# Altium footprint library vga.PcbLib: 95 footprints (part 4 of 7)
Each footprint in its own frame and in the unit in brackets; x right, y up, seen from the top. Pads: shape width x height; smd on the part's side, far side on the other; paste and mask are expansions set on the pad; w line width, h text height; cw(c..) or ccw(c..) is an arc to the next point about the centre after c.
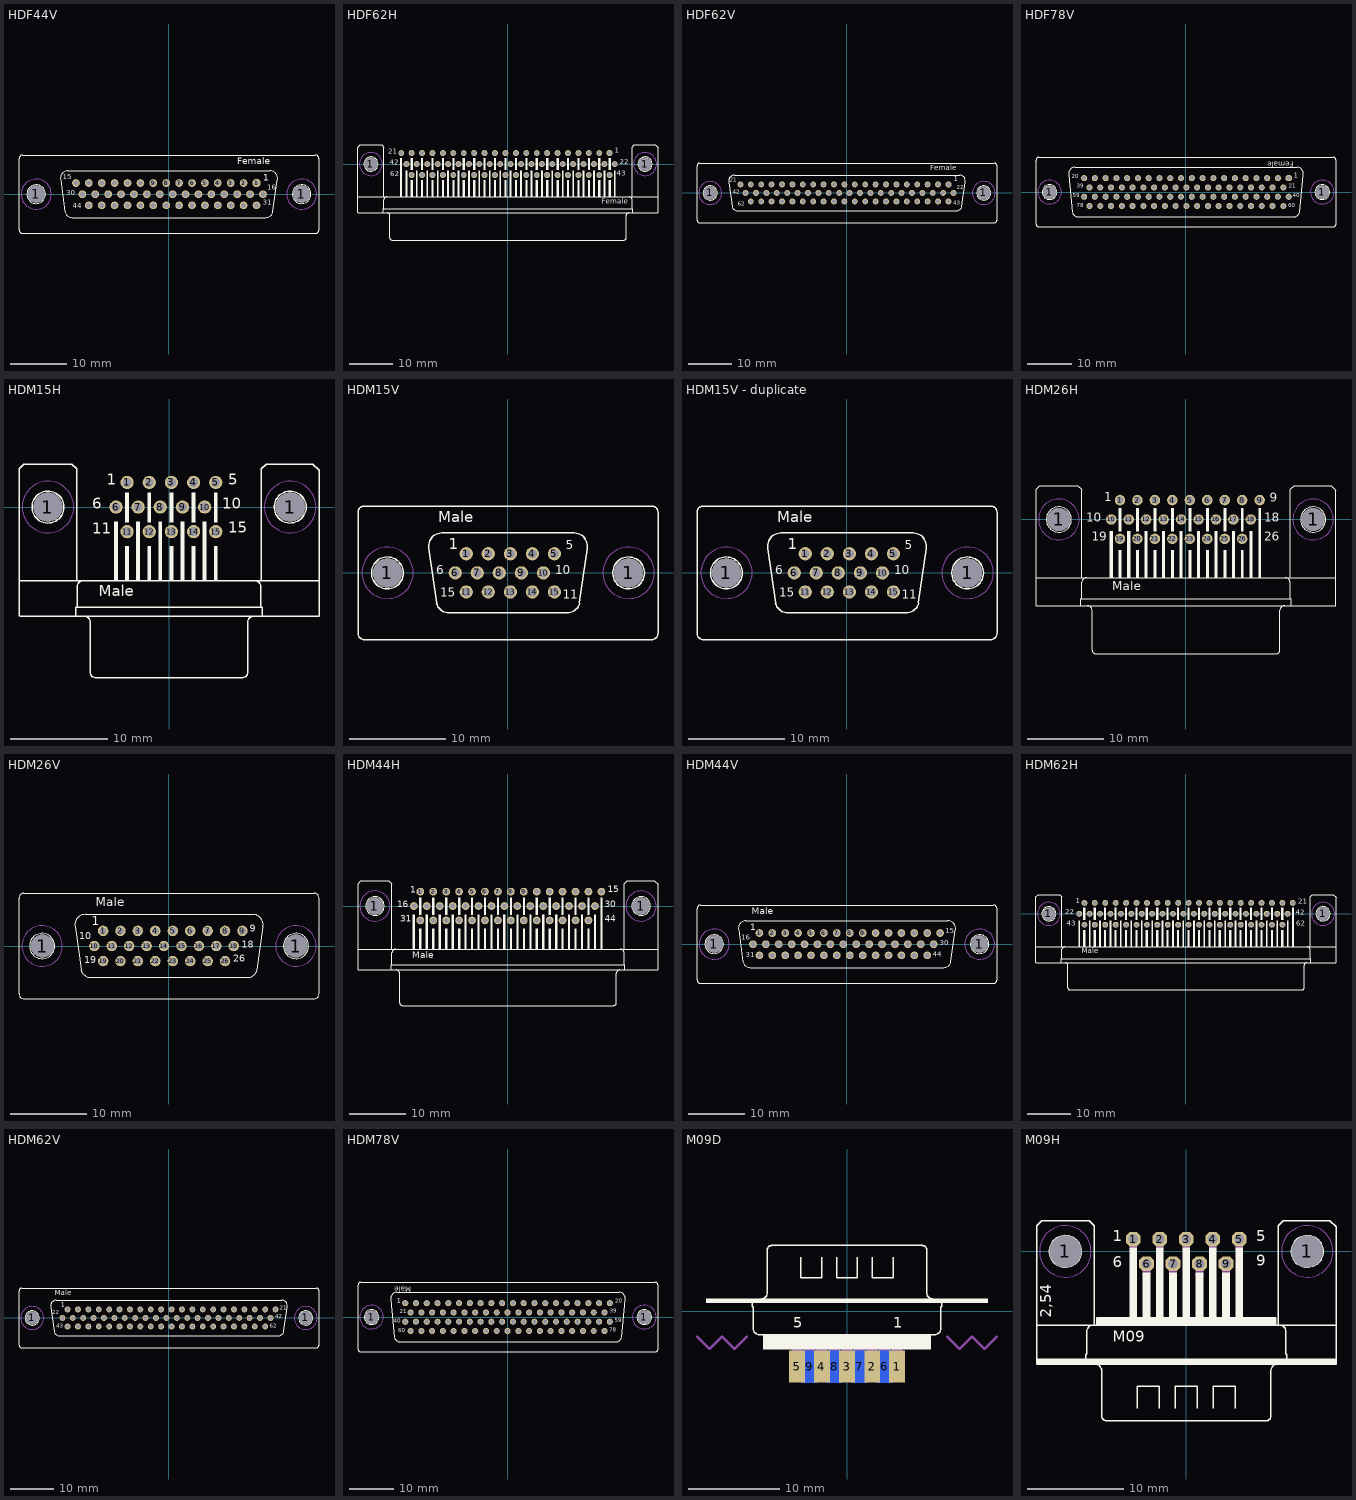
[diagram p3: the footprints below, top view; thin cyan lines are the x and y axes]

## HDF44V [mil]
pads (46):
  round 119 hole 119: 1(-925.98,0) 1(926,0)
  oct 54x54 hole 36: 1(611,78)
  round 54 hole 36: 2(521,78) 3(431,78) 4(341,78) 5(251,78) 6(161,78) 7(71,78) 8(-19.13,78) 9(-109.13,78) 10(-199.13,78) 11(-289.13,78) 12(-379.13,78) 13(-469.13,78) 14(-559.13,78) 15(-649.13,78) 16(656,0) 17(566,0) 18(476,0) 19(386,0) 20(296,0) 21(206,0) 22(116,0) 23(26,0) 24(-64.13,0) 25(-154.13,0) 26(-244.13,0) 27(-334.13,0) 28(-424.13,0) 29(-514.13,0) 30(-604.13,0) 31(611,-77.95) 32(521,-77.95) 33(431,-77.95) 34(341,-77.95) 35(251,-77.95) 36(161,-77.95) 37(71,-77.95) 38(-19.13,-77.95) 39(-109.13,-77.95) 40(-199.13,-77.95) 41(-289.13,-77.95) 42(-379.13,-77.95) 43(-469.13,-77.95) 44(-559.13,-77.95)
Top Overlay:
  circle w6: c926,0 r65
  circle w6: c-925.98,0 r65
  lines w6: -1021.3,-272.56 cw(c-1021.3,-247.56) -1046.3,-247.56 -1046.3,248 cw(c-1021.3,248) -1021.3,273 1021,273 ; -1020.98,-272.56 1022,-272.56 ccw(c1022,-247.56) 1047,-247.56 1047,248 ccw(c1022,248) 1022,273 ; -725.86,-123.21 ccw(c-674.57,-109.87) -674.57,-162.87 675,-162.87 ccw(c674.85,-110.06) 726,-123.21 ; -725.55,-123.86 -756.57,100 cw(c-704.73,110.2) -704.57,163 705,163 cw(c705.22,110.06) 757,99 726,-122.87
  text "1" at 657,75 h77.5
  text "44" at -672.95,-112.8 h62
  text "16" at 685,18 h62
  text "15" at -739.68,91 h62
  text "30" at -718.31,-22.24 h62
  text "31" at 654,-89.17 h62
  text "Female" at 475,190 h77.5
Mechanical 2:
  text ">NAME" at -450,300 h108.5
Mechanical 4:
  text ">VALUE" at -400,-250 h108.5
Mechanical 9:
  circle w0: c926,0 r105
  circle w0: c-925.98,0 r105
Mechanical 10:
  circle w0: c926,0 r105
  circle w0: c-925.98,0 r105
Mechanical 16:
  text "HDF44 CONEC" at -758.74,211 h77.5

## HDF62H [mil]
pads (64):
  round 119 hole 119: 1(-1250,0) 1(1250,0)
  oct 54x54 hole 36: 1(927,100)
  round 54 hole 36: 2(832,100) 3(737,100) 4(642,100) 5(547,100) 6(452,100) 7(357,100) 8(262,100) 9(167,100) 10(72,100) 11(-23.74,100) 12(-118.74,100) 13(-213.74,100) 14(-308.74,100) 15(-403.74,100) 16(-498.74,100) 17(-593.74,100) 18(-688.74,100) 19(-783.74,100) 20(-878.74,100) 21(-973.74,100) 22(974,0) 23(879,0) 24(784,0) 25(689,0) 26(594,0) 27(499,0) 28(404,0) 29(309,0) 30(214,0) 31(119,0) 32(24,0) 33(-71.22,0) 34(-166.22,0) 35(-261.22,0) 36(-356.22,0) 37(-451.22,0) 38(-546.22,0) 39(-641.22,0) 40(-736.22,0) 41(-831.22,0) 42(-926.22,0) 43(927,-100) 44(832,-100) 45(737,-100) 46(642,-100) 47(547,-100) 48(452,-100) 49(357,-100) 50(262,-100) 51(167,-100) 52(72,-100) 53(-23.74,-100) 54(-118.74,-100) 55(-213.74,-100) 56(-308.74,-100) 57(-403.74,-100) 58(-498.74,-100) 59(-593.74,-100) 60(-688.74,-100) 61(-783.74,-100) 62(-878.74,-100)
Top Overlay:
  circle w6: c1250,0 r65
  circle w6: c-1250,0 r65
  rectangle: 966,-299.21 982,-59.06
  rectangle: 871,-299.21 887,-59.06
  rectangle: 776,-299.21 792,-59.06
  rectangle: 681,-299.21 697,-59.06
  rectangle: 586,-299.21 602,-59.06
  rectangle: 491,-299.21 507,-59.06
  rectangle: 396,-299.21 412,-59.06
  rectangle: 301,-299.21 317,-59.06
  rectangle: 206,-299.21 222,-59.06
  rectangle: 111,-299.21 127,-59.06
  rectangle: 16,-299.21 32,-59.06
  rectangle: -79.09,-299.21 -63.35,-59.06
  rectangle: -174.09,-299.21 -158.35,-59.06
  rectangle: -269.09,-299.21 -253.35,-59.06
  rectangle: -364.09,-299.21 -348.35,-59.06
  rectangle: -459.09,-299.21 -443.35,-59.06
  rectangle: -554.09,-299.21 -538.35,-59.06
  rectangle: -649.09,-299.21 -633.35,-59.06
  rectangle: -744.09,-299.21 -728.35,-59.06
  rectangle: -839.09,-299.21 -823.35,-59.06
  rectangle: -934.09,-299.21 -918.35,-59.06
  rectangle: 918,-299.21 938,-145.67
  rectangle: 918,-55.12 938,56
  rectangle: 823,-299.21 843,-145.67
  rectangle: 728,-299.21 748,-145.67
  rectangle: 823,-55.12 843,56
  rectangle: 728,-55.12 748,56
  rectangle: 633,-55.12 653,56
  rectangle: 633,-299.21 653,-145.67
  rectangle: 538,-299.21 558,-145.67
  rectangle: 538,-55.12 558,56
  rectangle: 443,-299.21 463,-145.67
  rectangle: 348,-299.21 368,-145.67
  rectangle: 443,-55.12 463,56
  rectangle: 348,-55.12 368,56
  rectangle: 253,-55.12 273,56
  rectangle: 253,-299.21 273,-145.67
  rectangle: 158,-299.21 178,-145.67
  rectangle: 158,-55.12 178,56
  rectangle: 63,-299.21 83,-145.67
  rectangle: -32.68,-299.21 -12.99,-145.67
  rectangle: 63,-55.12 83,56
  rectangle: -32.68,-55.12 -12.99,56
  rectangle: -127.68,-55.12 -107.99,56
  rectangle: -127.68,-299.21 -107.99,-145.67
  rectangle: -222.68,-299.21 -202.99,-145.67
  rectangle: -222.68,-55.12 -202.99,56
  rectangle: -317.68,-299.21 -297.99,-145.67
  rectangle: -412.68,-299.21 -392.99,-145.67
  rectangle: -317.68,-55.12 -297.99,56
  rectangle: -412.68,-55.12 -392.99,56
  rectangle: -507.68,-55.12 -487.99,56
  rectangle: -507.68,-299.21 -487.99,-145.67
  rectangle: -602.68,-299.21 -582.99,-145.67
  rectangle: -602.68,-55.12 -582.99,56
  rectangle: -697.68,-299.21 -677.99,-145.67
  rectangle: -792.68,-299.21 -772.99,-145.67
  rectangle: -697.68,-55.12 -677.99,56
  rectangle: -792.68,-55.12 -772.99,56
  rectangle: -887.68,-55.12 -867.99,56
  rectangle: -887.68,-299.21 -867.99,-145.67
  rectangle: -984.25,-299.21 -964.57,56
  lines w6: -1367.87,-443.94 -1367.87,-300 ; -1366.14,-444.88 1367,-444.88 ; -1136.38,-443.94 -1136.38,-408.19 -1131.38,-408.19 ; -1132.87,-300 -1132.87,155 -1152.87,175 -1347.87,175 -1367.87,155 -1367.87,-300 ; -1106.38,-300 ccw(c-1106.38,-325) -1131.38,-325 -1131.38,-408.19 ; -1102.87,-444.25 cw(c-1102.87,-469.25) -1077.87,-469.25 -1077.87,-673.19 ccw(c-1057.87,-673.19) -1057.87,-693.19 1058,-693.19 ccw(c1058,-673.19) 1078,-673.19 1078,-469.25 cw(c1103,-469.25) 1103,-444.25 ; 1107,-300 cw(c1107,-325) 1132,-325 1132,-408.19 ; 1133,-300 1133,155 1153,175 1343,175 1368,150 1368,-443.94 ; 1137,-443.94 1137,-408.19 1132,-408.19 ; 1365,-300 -1367.87,-300 ; -1131.38,-408.19 1132,-408.19
  text "1" at 975,83 h77.5
  text "21" at -1090.16,75 h77.5
  text "42" at -1076.1,-26.18 h77.5
  text "62" at -1074.61,-128.54 h77.5
  text "22" at 1018,-18.31 h77.5
  text "43" at 994,-124.61 h77.5
  text "Female" at 855,-380 h77.5
Mechanical 2:
  text ">NAME" at -400,150 h108.5
Mechanical 4:
  text ">VALUE" at 0,150 h108.5
Mechanical 9:
  circle w0: c1250,0 r105
  circle w0: c-1250,0 r105
Mechanical 10:
  circle w0: c1250,0 r105
  circle w0: c-1250,0 r105
Mechanical 16:
  text "HDF62 CONEC" at -998.74,-389.41 h77.5

## HDF62V [mil]
pads (64):
  round 119 hole 119: 1(-1250,0) 1(1250,0)
  oct 54x54 hole 36: 1(927,78)
  round 54 hole 36: 2(832,78) 3(737,78) 4(642,78) 5(547,78) 6(452,78) 7(357,78) 8(262,78) 9(167,78) 10(72,78) 11(-23.54,78) 12(-118.54,78) 13(-213.54,78) 14(-308.54,78) 15(-403.54,78) 16(-498.54,78) 17(-593.54,78) 18(-688.54,78) 19(-783.54,78) 20(-878.54,78) 21(-973.54,78) 22(974,0) 23(879,0) 24(784,0) 25(689,0) 26(594,0) 27(499,0) 28(404,0) 29(309,0) 30(214,0) 31(119,0) 32(24,0) 33(-71.06,0) 34(-166.06,0) 35(-261.06,0) 36(-356.06,0) 37(-451.06,0) 38(-546.06,0) 39(-641.06,0) 40(-736.06,0) 41(-831.06,0) 42(-926.06,0) 43(927,-77.95) 44(832,-77.95) 45(737,-77.95) 46(642,-77.95) 47(547,-77.95) 48(452,-77.95) 49(357,-77.95) 50(262,-77.95) 51(167,-77.95) 52(72,-77.95) 53(-23.54,-77.95) 54(-118.54,-77.95) 55(-213.54,-77.95) 56(-308.54,-77.95) 57(-403.54,-77.95) 58(-498.54,-77.95) 59(-593.54,-77.95) 60(-688.54,-77.95) 61(-783.54,-77.95) 62(-878.54,-77.95)
Top Overlay:
  circle w6: c1250,0 r65
  circle w6: c-1250,0 r65
  lines w6: -1345.32,-272.56 cw(c-1345.32,-247.56) -1370.32,-247.56 -1370.32,248 cw(c-1345.32,248) -1345.32,273 1345,273 ; -1345,-272.56 1346,-272.56 ccw(c1346,-247.56) 1371,-247.56 1371,248 ccw(c1346,248) 1346,273 ; -1080.59,100 -1049.57,-123.86 ; -1080.56,100 cw(c-1028.74,110.2) -1028.58,163 1029,163 cw(c1029.22,110.06) 1081,99 1050,-122.87 ; -1049.88,-123.21 ccw(c-998.58,-109.87) -998.58,-162.87 999,-162.87 ccw(c998.85,-110.06) 1050,-123.21
  text "1" at 975,91 h77.5
  text "62" at -996.97,-128.54 h62
  text "21" at -1071.57,87 h62
  text "42" at -1042.32,-22.24 h62
  text "22" at 1003,18 h62
  text "43" at 973,-120.67 h62
  text "Female" at 760,190 h77.5
Mechanical 2:
  text ">NAME" at -450,300 h108.5
Mechanical 4:
  text ">VALUE" at -400,-250 h108.5
Mechanical 9:
  circle w0: c1250,0 r105
  circle w0: c-1250,0 r105
Mechanical 10:
  circle w0: c1250,0 r105
  circle w0: c-1250,0 r105
Mechanical 16:
  text "HDF62 CONEC" at -948.74,211 h77.5

## HDF78V [mil]
pads (80):
  round 119 hole 119: 1(-1202.76,0) 1(1203,0)
  oct 54x54 hole 36: 1(907,123)
  round 54 hole 36: 2(812,123) 3(717,123) 4(622,123) 5(527,123) 6(432,123) 7(337,123) 8(242,123) 9(147,123) 10(52,123) 11(-43.54,123) 12(-138.54,123) 13(-233.54,123) 14(-328.54,123) 15(-423.54,123) 16(-518.54,123) 17(-613.54,123) 18(-708.54,123) 19(-803.54,123) 20(-898.54,123) 21(859,41) 22(764,41) 23(669,41) 24(574,41) 25(479,41) 26(384,41) 27(289,41) 28(194,41) 29(99,41) 30(4,41) 31(-91.06,41) 32(-186.06,41) 33(-281.06,41) 34(-376.06,41) 35(-471.06,41) 36(-566.06,41) 37(-661.06,41) 38(-756.06,41) 39(-851.06,41) 40(907,-40.94) 41(812,-40.94) 42(717,-40.94) 43(622,-40.94) 44(527,-40.94) 45(432,-40.94) 46(337,-40.94) 47(242,-40.94) 48(147,-40.94) 49(52,-40.94) 50(-43.54,-40.94) 51(-138.54,-40.94) 52(-233.54,-40.94) 53(-328.54,-40.94) 54(-423.54,-40.94) 55(-518.54,-40.94) 56(-613.54,-40.94) 57(-708.54,-40.94) 58(-803.54,-40.94) 59(-898.54,-40.94) 60(859,-122.83) 61(764,-122.83) 62(669,-122.83) 63(574,-122.83) 64(479,-122.83) 65(384,-122.83) 66(289,-122.83) 67(194,-122.83) 68(99,-122.83) 69(4,-122.83) 70(-91.06,-122.83) 71(-186.06,-122.83) 72(-281.06,-122.83) 73(-376.06,-122.83) 74(-471.06,-122.83) 75(-566.06,-122.83) 76(-661.06,-122.83) 77(-756.06,-122.83) 78(-851.06,-122.83)
Top Overlay:
  circle w6: c1203,0 r65
  circle w6: c-1202.76,0 r65
  lines w6: -1298.07,-307.99 cw(c-1298.07,-282.99) -1323.07,-282.99 -1323.07,283 cw(c-1298.07,283) -1298.07,308 1298,308 ; -1297.76,-307.99 1299,-307.99 ccw(c1299,-282.99) 1324,-282.99 1324,283 ccw(c1299,283) 1299,308 ; -1033.35,155 -1002.32,-178.98 ; -1033.31,155 cw(c-981.5,165.2) -981.34,218 982,218 cw(c982.22,165.06) 1034,154 1003,-177.99 ; -1002.63,-178.33 ccw(c-951.34,-164.99) -951.34,-217.99 952,-217.99 ccw(c951.85,-165.18) 1003,-178.33
  text "1" at 951,107 h77.5
  text "21" at 908,25 h62
  text "40" at 944,-57.68 h62
  text "60" at 901,-148.23 h62
  text "20" at -1008.58,111 h62
  text "39" at -963.58,25 h62
  text "59" at -1000.91,-57.68 h62
  text "78" at -961.54,-148.23 h62
  text "Female" at 950,285 h77.5
Mechanical 2:
  text ">NAME" at -900,350 h108.5
Mechanical 4:
  text ">VALUE" at -500,350 h108.5
Mechanical 9:
  circle w0: c1203,0 r105
  circle w0: c-1202.76,0 r105
Mechanical 10:
  circle w0: c1203,0 r105
  circle w0: c-1202.76,0 r105
Mechanical 16:
  text "HDF78 CONEC" at -944.8,243 h77.5

## HDM15H [mil]
pads (17):
  round 119 hole 119: 1(-492.13,0) 1(493,0)
  round 54 hole 36: 1(-170.43,100) 2(-80.43,100) 3(10,100) 4(100,100) 5(190,100) 6(-215.43,0) 7(-125.43,0) 8(-35.43,0) 9(55,0) 10(145,0) 11(-170.43,-100) 12(-80.43,-100) 13(10,-100) 14(100,-100) 15(190,-100)
Top Overlay:
  circle w6: c493,0 r65
  circle w6: c-492.13,0 r65
  rectangle: -43.31,-299.21 -27.56,-59.06
  rectangle: 47,-299.21 63,-59.06
  rectangle: 137,-299.21 153,-59.06
  rectangle: -133.31,-299.21 -117.56,-59.06
  rectangle: -223.31,-299.21 -207.56,-59.06
  rectangle: 2,-299.21 18,-157.48
  rectangle: 92,-299.21 108,-157.48
  rectangle: 182,-299.21 198,-157.48
  rectangle: -88.31,-299.21 -72.56,-157.48
  rectangle: -178.31,-299.21 -162.56,-157.48
  rectangle: 182,-62.99 198,60
  rectangle: 92,-62.99 108,60
  rectangle: 2,-62.99 18,60
  rectangle: -88.31,-62.99 -72.56,60
  rectangle: -178.31,-62.99 -162.56,60
  lines w6: -610,-443.94 -610,-300 ; -605.51,-444.65 610,-444.65 ; -378.5,-443.94 -378.5,-408.19 -373.5,-408.19 ; -375,-300 -375,155 -395,175 -590,175 -610,155 -610,-300 ; -348.5,-300 ccw(c-348.5,-325) -373.5,-325 -373.5,-408.19 ; -345,-444.25 cw(c-345,-469.25) -320,-469.25 -320,-673.19 ccw(c-300,-673.19) -300,-693.19 300,-693.19 ccw(c300,-673.19) 320,-673.19 320,-469.25 cw(c345,-469.25) 345,-444.25 ; 349,-300 cw(c349,-325) 374,-325 374,-408.19 ; 375,-300 375,155 395,175 585,175 610,150 610,-443.94 ; 379,-443.94 379,-408.19 374,-408.19 ; 610,-300 -610,-300 ; -373.5,-408.19 374,-408.19
  text "1" at -252.76,75 h77.5
  text "5" at 240,75 h77.5
  text "6" at -311.81,-22.24 h77.5
  text "10" at 216,-22.24 h77.5
  text "15" at 240,-120.67 h77.5
  text "11" at -311.81,-124.61 h77.5
  text "Male" at -285,-380 h77.5
Mechanical 2:
  text ">NAME" at -350,200 h108.5
Mechanical 4:
  text ">VALUE" at 0,200 h108.5
Mechanical 9:
  circle w0: c493,0 r105
  circle w0: c-492.13,0 r105
Mechanical 10:
  circle w0: c493,0 r105
  circle w0: c-492.13,0 r105
Mechanical 16:
  text "HDM15 CONEC" at -238.74,-579.41 h77.5

## HDM15V [mil]
pads (17):
  round 119 hole 119: 1(-492.13,0) 1(493,0)
  round 54 hole 36: 1(-170.24,78) 2(-80.24,78) 3(10,78) 4(100,78) 5(190,78) 6(-215.24,0) 7(-125.24,0) 8(-35.24,0) 9(55,0) 10(145,0) 11(-170.24,-77.95) 12(-80.24,-77.95) 13(10,-77.95) 14(100,-77.95) 15(190,-77.95)
Top Overlay:
  circle w6: c-492.13,0 r65
  circle w6: c493,0 r65
  lines w6: -587.44,-272.56 cw(c-587.44,-247.56) -612.44,-247.56 -612.44,248 cw(c-587.44,248) -587.44,273 588,273 cw(c588,248) 613,248 613,-247.56 cw(c588,-247.56) 588,-272.56 -587.13,-272.56 ; -292,-123.21 ccw(c-240.71,-109.87) -240.71,-162.87 241,-162.87 ccw(c241.35,-109.42) 293,-123.21 ; -291.69,-123.86 -322.72,100 cw(c-270.87,110.2) -270.71,163 271,163 cw(c271.22,110.06) 323,99 292,-122.87
  text "Male" at -285,190 h77.5
  text "11" at 224,-118.31 h62
  text "15" at -276.38,-108.86 h62
  text "10" at 193,-18.31 h62
  text "6" at -292.13,-18.31 h62
  text "5" at 236,85 h62
  text "1" at -240.94,81 h77.5
Mechanical 2:
  text ">NAME" at -450,300 h108.5
Mechanical 4:
  text ">VALUE" at -400,-250 h108.5
Mechanical 9:
  circle w0: c-492.13,0 r105
  circle w0: c493,0 r105
Mechanical 10:
  circle w0: c-492.13,0 r105
  circle w0: c493,0 r105
Mechanical 16:
  text "HDF15 CONEC" at 2,211 h77.5

## HDM15V - duplicate [mil]
pads (17):
  round 119 hole 119: 1(-492.13,0) 1(493,0)
  round 54 hole 36: 1(-170.24,78) 2(-80.24,78) 3(10,78) 4(100,78) 5(190,78) 6(-215.24,0) 7(-125.24,0) 8(-35.24,0) 9(55,0) 10(145,0) 11(-170.24,-77.95) 12(-80.24,-77.95) 13(10,-77.95) 14(100,-77.95) 15(190,-77.95)
Top Overlay:
  circle w6: c-492.13,0 r65
  circle w6: c493,0 r65
  lines w6: -587.44,-272.56 cw(c-587.44,-247.56) -612.44,-247.56 -612.44,248 cw(c-587.44,248) -587.44,273 588,273 cw(c588,248) 613,248 613,-247.56 cw(c588,-247.56) 588,-272.56 -587.13,-272.56 ; -292,-123.21 ccw(c-240.71,-109.87) -240.71,-162.87 241,-162.87 ccw(c241.35,-109.42) 293,-123.21 ; -291.69,-123.86 -322.72,100 cw(c-270.87,110.2) -270.71,163 271,163 cw(c271.22,110.06) 323,99 292,-122.87
  text "Male" at -285,190 h77.5
  text "11" at 224,-118.31 h62
  text "15" at -276.38,-108.86 h62
  text "10" at 193,-18.31 h62
  text "6" at -292.13,-18.31 h62
  text "5" at 236,85 h62
  text "1" at -240.94,81 h77.5
Mechanical 2:
  text ">NAME" at -450,300 h108.5
Mechanical 4:
  text ">VALUE" at -400,-250 h108.5
Mechanical 9:
  circle w0: c-492.13,0 r105
  circle w0: c493,0 r105
Mechanical 10:
  circle w0: c-492.13,0 r105
  circle w0: c493,0 r105
Mechanical 16:
  text "HDF15 CONEC" at 2,211 h77.5

## HDM26H [mil]
pads (28):
  round 119 hole 119: 1(-655.51,0) 1(656,0)
  round 54 hole 36: 1(-340.12,100) 2(-250.12,100) 3(-160.12,100) 4(-70.12,100) 5(20,100) 6(110,100) 7(200,100) 8(290,100) 9(380,100) 10(-385.12,0) 11(-295.12,0) 12(-205.12,0) 13(-115.12,0) 14(-25.12,0) 15(65,0) 16(155,0) 17(245,0) 18(335,0) 19(-340.12,-100) 20(-250.12,-100) 21(-160.12,-100) 22(-70.12,-100) 23(20,-100) 24(110,-100) 25(200,-100) 26(290,-100)
Top Overlay:
  circle w6: c656,0 r65
  circle w6: c-655.51,0 r65
  rectangle: -212.99,-299.21 -197.24,-59.06
  rectangle: -122.99,-299.21 -107.24,-59.06
  rectangle: -32.99,-299.21 -17.24,-59.06
  rectangle: -302.99,-299.21 -287.24,-59.06
  rectangle: -392.99,-299.21 -377.24,-59.06
  rectangle: -167.99,-299.21 -152.24,-157.48
  rectangle: -77.99,-299.21 -62.24,-157.48
  rectangle: 13,-299.21 28,-157.48
  rectangle: -257.99,-299.21 -242.24,-157.48
  rectangle: -347.99,-299.21 -332.24,-157.48
  rectangle: 13,-62.99 28,60
  rectangle: -77.99,-62.99 -62.24,60
  rectangle: -167.99,-62.99 -152.24,60
  rectangle: -257.99,-62.99 -242.24,60
  rectangle: -347.99,-62.99 -332.24,60
  rectangle: 238,-299.21 253,-59.06
  rectangle: 328,-299.21 343,-59.06
  rectangle: 148,-299.21 163,-59.06
  rectangle: 283,-299.21 298,-157.48
  rectangle: 193,-299.21 208,-157.48
  rectangle: 103,-299.21 118,-157.48
  rectangle: 58,-299.21 73,-59.06
  rectangle: 103,-62.99 118,60
  rectangle: 193,-62.99 208,60
  rectangle: 283,-62.99 298,60
  rectangle: 373,-62.99 388,60
  rectangle: 373,-299.21 388,-59.06
  lines w6: -773.39,-443.94 -773.39,-300 ; -771.65,-444.88 772,-444.88 ; -541.89,-443.94 -541.89,-408.19 -536.89,-408.19 ; -538.39,-300 -538.39,155 -558.39,175 -753.39,175 -773.39,155 -773.39,-300 ; -511.89,-300 ccw(c-511.89,-325) -536.89,-325 -536.89,-408.19 ; -508.39,-444.25 cw(c-508.39,-469.25) -483.39,-469.25 -483.39,-673.19 ccw(c-463.39,-673.19) -463.39,-693.19 464,-693.19 ccw(c464,-673.19) 484,-673.19 484,-469.25 cw(c509,-469.25) 509,-444.25 ; 512,-300 cw(c512,-325) 537,-325 537,-408.19 ; 539,-300 539,155 559,175 749,175 774,150 774,-443.94 ; 542,-443.94 542,-408.19 537,-408.19 ; 770,-300 -773.39,-300 ; -536.89,-408.19 537,-408.19
  text "1" at -422.32,79 h77.5
  text "10" at -513.39,-26.18 h77.5
  text "9" at 433,75 h77.5
  text "18" at 405,-26.18 h77.5
  text "19" at -485.31,-124.61 h77.5
  text "26" at 403,-124.61 h77.5
  text "Male" at -380,-380 h77.5
Mechanical 2:
  text ">NAME" at -400,150 h108.5
Mechanical 4:
  text ">VALUE" at 0,150 h108.5
Mechanical 9:
  circle w0: c656,0 r105
  circle w0: c-655.51,0 r105
Mechanical 10:
  circle w0: c656,0 r105
  circle w0: c-655.51,0 r105
Mechanical 16:
  text "HDM26 CONEC" at -48.74,-389.41 h77.5

## HDM26V [mil]
pads (28):
  round 119 hole 119: 1(-655.51,0) 1(656,0)
  round 54 hole 36: 1(-340.87,78) 2(-250.87,78) 3(-160.87,78) 4(-70.87,78) 5(20,78) 6(110,78) 7(200,78) 8(290,78) 9(380,78) 10(-385.87,0) 11(-295.87,0) 12(-205.87,0) 13(-115.87,0) 14(-25.87,0) 15(65,0) 16(155,0) 17(245,0) 18(335,0) 19(-340.87,-77.95) 20(-250.87,-77.95) 21(-160.87,-77.95) 22(-70.87,-77.95) 23(20,-77.95) 24(110,-77.95) 25(200,-77.95) 26(290,-77.95)
Top Overlay:
  circle w6: c657,0 r65
  circle w6: c-656.39,0 r65
  lines w6: -750.83,-272.56 cw(c-750.83,-247.56) -775.83,-247.56 -775.83,248 cw(c-750.83,248) -750.83,273 751,273 cw(c751,248) 776,248 776,-247.56 cw(c751,-247.56) 751,-272.56 -750.51,-272.56 ; -486.1,100 -455.08,-123.86 ; -486.07,100 cw(c-434.26,110.2) -434.09,163 435,163 cw(c434.72,110.46) 486,99 ; -455.39,-123.21 ccw(c-404.09,-109.87) -404.09,-162.87 405,-162.87 ccw(c404.85,-110.06) 456,-123.21 ; 456,-122.87 487,99
  text "1" at -400.75,92 h77.5
  text "26" at 333,-94.69 h62
  text "10" at -462.99,22 h62
  text "9" at 419,61 h62
  text "18" at 376,-22.24 h62
  text "19" at -437.44,-102.56 h62
  text "Male" at -380,190 h77.5
Mechanical 2:
  text ">NAME" at -450,300 h108.5
Mechanical 4:
  text ">VALUE" at -400,-250 h108.5
Mechanical 9:
  circle w0: c657,0 r105
  circle w0: c-656.39,0 r105
Mechanical 10:
  circle w0: c657,0 r105
  circle w0: c-656.39,0 r105
Mechanical 16:
  text "HDF26 CONEC" at 2,211 h77.5

## HDM44H [mil]
pads (46):
  round 119 hole 119: 1(-925.98,0) 1(926,0)
  round 54 hole 36: 1(-610.12,100) 2(-520.12,100) 3(-430.12,100) 4(-340.12,100) 5(-250.12,100) 6(-160.12,100) 7(-70.12,100) 8(20,100) 9(110,100) 10(200,100) 11(290,100) 12(380,100) 13(470,100) 14(560,100) 15(650,100) 16(-655.12,0) 17(-565.12,0) 18(-475.12,0) 19(-385.12,0) 20(-295.12,0) 21(-205.12,0) 22(-115.12,0) 23(-25.12,0) 24(65,0) 25(155,0) 26(245,0) 27(335,0) 28(425,0) 29(515,0) 30(605,0) 31(-610.12,-100) 32(-520.12,-100) 33(-430.12,-100) 34(-340.12,-100) 35(-250.12,-100) 36(-160.12,-100) 37(-70.12,-100) 38(20,-100) 39(110,-100) 40(200,-100) 41(290,-100) 42(380,-100) 43(470,-100) 44(560,-100)
Top Overlay:
  circle w6: c926,0 r65
  circle w6: c-925.98,0 r65
  rectangle: -482.99,-299.21 -467.24,-59.06
  rectangle: -392.99,-299.21 -377.24,-59.06
  rectangle: -302.99,-299.21 -287.24,-59.06
  rectangle: -572.99,-299.21 -557.24,-59.06
  rectangle: -662.99,-299.21 -647.24,-59.06
  rectangle: -437.99,-299.21 -422.24,-157.48
  rectangle: -347.99,-299.21 -332.24,-157.48
  rectangle: -257.99,-299.21 -242.24,-157.48
  rectangle: -527.99,-299.21 -512.24,-157.48
  rectangle: -617.99,-299.21 -602.24,-157.48
  rectangle: -257.99,-62.99 -242.24,60
  rectangle: -347.99,-62.99 -332.24,60
  rectangle: -437.99,-62.99 -422.24,60
  rectangle: -527.99,-62.99 -512.24,60
  rectangle: -617.99,-62.99 -602.24,60
  rectangle: -32.99,-299.21 -17.24,-59.06
  rectangle: 58,-299.21 73,-59.06
  rectangle: -122.99,-299.21 -107.24,-59.06
  rectangle: 13,-299.21 28,-157.48
  rectangle: -77.99,-299.21 -62.24,-157.48
  rectangle: -167.99,-299.21 -152.24,-157.48
  rectangle: -212.99,-299.21 -197.24,-59.06
  rectangle: -167.99,-62.99 -152.24,60
  rectangle: -77.99,-62.99 -62.24,60
  rectangle: 13,-62.99 28,60
  rectangle: 148,-299.21 163,-59.06
  rectangle: 238,-299.21 253,-59.06
  rectangle: 328,-299.21 343,-59.06
  rectangle: 193,-299.21 208,-157.48
  rectangle: 283,-299.21 298,-157.48
  rectangle: 373,-299.21 388,-157.48
  rectangle: 103,-299.21 118,-157.48
  rectangle: 598,-299.21 613,-59.06
  rectangle: 643,-299.21 658,-59.06
  rectangle: 508,-299.21 523,-59.06
  rectangle: 553,-299.21 568,-157.48
  rectangle: 463,-299.21 478,-157.48
  rectangle: 418,-299.21 433,-59.06
  rectangle: 373,-62.99 388,60
  rectangle: 283,-62.99 298,60
  rectangle: 193,-62.99 208,60
  rectangle: 103,-62.99 118,60
  rectangle: 463,-62.99 478,60
  rectangle: 553,-62.99 568,60
  rectangle: 643,-62.99 658,60
  lines w6: -1043.86,-443.94 -1043.86,-300 ; -1042.13,-444.88 1043,-444.88 ; -812.36,-443.94 -812.36,-408.19 -807.36,-408.19 ; -808.86,-300 -808.86,155 -828.86,175 -1023.86,175 -1043.86,155 -1043.86,-300 ; -782.36,-300 ccw(c-782.36,-325) -807.36,-325 -807.36,-408.19 ; -778.86,-444.25 cw(c-778.86,-469.25) -753.86,-469.25 -753.86,-673.19 ccw(c-733.86,-673.19) -733.86,-693.19 734,-693.19 ccw(c734,-673.19) 754,-673.19 754,-469.25 cw(c779,-469.25) 779,-444.25 ; 783,-300 cw(c783,-325) 808,-325 808,-408.19 ; 809,-300 809,155 829,175 1019,175 1044,150 1044,-443.94 ; 813,-443.94 813,-408.19 808,-408.19 ; 1041,-300 -1043.86,-300 ; -807.36,-408.19 808,-408.19
  text "1" at -678.5,75 h77.5
  text "16" at -769.57,-26.18 h77.5
  text "31" at -749.88,-128.54 h77.5
  text "15" at 695,79 h77.5
  text "30" at 673,-26.18 h77.5
  text "44" at 675,-128.54 h77.5
  text "Male" at -665,-380 h77.5
Mechanical 2:
  text ">NAME" at -400,150 h108.5
Mechanical 4:
  text ">VALUE" at 0,150 h108.5
Mechanical 9:
  circle w0: c926,0 r105
  circle w0: c-925.98,0 r105
Mechanical 10:
  circle w0: c926,0 r105
  circle w0: c-925.98,0 r105
Mechanical 16:
  text "HDM44 CONEC" at 237,-389.41 h77.5

## HDM44V [mil]
pads (46):
  round 119 hole 119: 1(-925.98,0) 1(926,0)
  round 54 hole 36: 1(-610.87,78) 2(-520.87,78) 3(-430.87,78) 4(-340.87,78) 5(-250.87,78) 6(-160.87,78) 7(-70.87,78) 8(20,78) 9(110,78) 10(200,78) 11(290,78) 12(380,78) 13(470,78) 14(560,78) 15(650,78) 16(-655.87,0) 17(-565.87,0) 18(-475.87,0) 19(-385.87,0) 20(-295.87,0) 21(-205.87,0) 22(-115.87,0) 23(-25.87,0) 24(65,0) 25(155,0) 26(245,0) 27(335,0) 28(425,0) 29(515,0) 30(605,0) 31(-610.87,-77.95) 32(-520.87,-77.95) 33(-430.87,-77.95) 34(-340.87,-77.95) 35(-250.87,-77.95) 36(-160.87,-77.95) 37(-70.87,-77.95) 38(20,-77.95) 39(110,-77.95) 40(200,-77.95) 41(290,-77.95) 42(380,-77.95) 43(470,-77.95) 44(560,-77.95)
Top Overlay:
  circle w6: c926,0 r65
  circle w6: c-925.98,0 r65
  lines w6: -1021.3,-272.56 cw(c-1021.3,-247.56) -1046.3,-247.56 -1046.3,248 cw(c-1021.3,248) -1021.3,273 1021,273 ; -1020.98,-272.56 1022,-272.56 ccw(c1022,-247.56) 1047,-247.56 1047,248 ccw(c1022,248) 1022,273 ; -725.86,-123.21 ccw(c-674.57,-109.87) -674.57,-162.87 675,-162.87 ccw(c674.85,-110.06) 726,-123.21 ; -725.55,-123.86 -756.57,100 cw(c-704.73,110.2) -704.57,163 705,163 cw(c705.22,110.06) 757,99 726,-122.87
  text "1" at -674.13,79 h77.5
  text "44" at 600,-100.98 h62
  text "16" at -739.06,18 h62
  text "15" at 687,63 h62
  text "30" at 647,-22.24 h62
  text "31" at -707.87,-104.92 h62
  text "Male" at -665,190 h77.5
Mechanical 2:
  text ">NAME" at -450,300 h108.5
Mechanical 4:
  text ">VALUE" at -400,-250 h108.5
Mechanical 9:
  circle w0: c926,0 r105
  circle w0: c-925.98,0 r105
Mechanical 10:
  circle w0: c926,0 r105
  circle w0: c-925.98,0 r105
Mechanical 16:
  text "HDM44 CONEC" at 287,211 h77.5

## HDM62H [mil]
pads (64):
  round 119 hole 119: 1(-1250,0) 1(1250,0)
  round 54 hole 36: 1(-926.26,100) 2(-831.26,100) 3(-736.26,100) 4(-641.26,100) 5(-546.26,100) 6(-451.26,100) 7(-356.26,100) 8(-261.26,100) 9(-166.26,100) 10(-71.26,100) 11(24,100) 12(119,100) 13(214,100) 14(309,100) 15(404,100) 16(499,100) 17(594,100) 18(689,100) 19(784,100) 20(879,100) 21(974,100) 22(-973.78,0) 23(-878.78,0) 24(-783.78,0) 25(-688.78,0) 26(-593.78,0) 27(-498.78,0) 28(-403.78,0) 29(-308.78,0) 30(-213.78,0) 31(-118.78,0) 32(-23.78,0) 33(72,0) 34(167,0) 35(262,0) 36(357,0) 37(452,0) 38(547,0) 39(642,0) 40(737,0) 41(832,0) 42(927,0) 43(-926.26,-100) 44(-831.26,-100) 45(-736.26,-100) 46(-641.26,-100) 47(-546.26,-100) 48(-451.26,-100) 49(-356.26,-100) 50(-261.26,-100) 51(-166.26,-100) 52(-71.26,-100) 53(24,-100) 54(119,-100) 55(214,-100) 56(309,-100) 57(404,-100) 58(499,-100) 59(594,-100) 60(689,-100) 61(784,-100) 62(879,-100)
Top Overlay:
  circle w6: c1250,0 r65
  circle w6: c-1250,0 r65
  rectangle: -981.65,-299.21 -965.91,-59.06
  rectangle: -886.65,-299.21 -870.91,-59.06
  rectangle: -791.65,-299.21 -775.91,-59.06
  rectangle: -696.65,-299.21 -680.91,-59.06
  rectangle: -601.65,-299.21 -585.91,-59.06
  rectangle: -506.65,-299.21 -490.91,-59.06
  rectangle: -411.65,-299.21 -395.91,-59.06
  rectangle: -316.65,-299.21 -300.91,-59.06
  rectangle: -221.65,-299.21 -205.91,-59.06
  rectangle: -126.65,-299.21 -110.91,-59.06
  rectangle: -31.65,-299.21 -15.91,-59.06
  rectangle: 64,-299.21 80,-59.06
  rectangle: 159,-299.21 175,-59.06
  rectangle: 254,-299.21 270,-59.06
  rectangle: 349,-299.21 365,-59.06
  rectangle: 444,-299.21 460,-59.06
  rectangle: 539,-299.21 555,-59.06
  rectangle: 634,-299.21 650,-59.06
  rectangle: 729,-299.21 745,-59.06
  rectangle: 824,-299.21 840,-59.06
  rectangle: 919,-299.21 935,-59.06
  rectangle: -937.01,-299.21 -917.32,-145.67
  rectangle: -937.01,-55.12 -917.32,56
  rectangle: -842.01,-299.21 -822.32,-145.67
  rectangle: -747.01,-299.21 -727.32,-145.67
  rectangle: -842.01,-55.12 -822.32,56
  rectangle: -747.01,-55.12 -727.32,56
  rectangle: -652.01,-55.12 -632.32,56
  rectangle: -652.01,-299.21 -632.32,-145.67
  rectangle: -557.01,-299.21 -537.32,-145.67
  rectangle: -557.01,-55.12 -537.32,56
  rectangle: -462.01,-299.21 -442.32,-145.67
  rectangle: -367.01,-299.21 -347.32,-145.67
  rectangle: -462.01,-55.12 -442.32,56
  rectangle: -367.01,-55.12 -347.32,56
  rectangle: -272.01,-55.12 -252.32,56
  rectangle: -272.01,-299.21 -252.32,-145.67
  rectangle: -177.01,-299.21 -157.32,-145.67
  rectangle: -177.01,-55.12 -157.32,56
  rectangle: -82.01,-299.21 -62.32,-145.67
  rectangle: 13,-299.21 33,-145.67
  rectangle: -82.01,-55.12 -62.32,56
  rectangle: 13,-55.12 33,56
  rectangle: 108,-55.12 128,56
  rectangle: 108,-299.21 128,-145.67
  rectangle: 203,-299.21 223,-145.67
  rectangle: 203,-55.12 223,56
  rectangle: 298,-299.21 318,-145.67
  rectangle: 393,-299.21 413,-145.67
  rectangle: 298,-55.12 318,56
  rectangle: 393,-55.12 413,56
  rectangle: 488,-55.12 508,56
  rectangle: 488,-299.21 508,-145.67
  rectangle: 583,-299.21 603,-145.67
  rectangle: 583,-55.12 603,56
  rectangle: 678,-299.21 698,-145.67
  rectangle: 773,-299.21 793,-145.67
  rectangle: 678,-55.12 698,56
  rectangle: 773,-55.12 793,56
  rectangle: 868,-55.12 888,56
  rectangle: 868,-299.21 888,-145.67
  rectangle: 965,-299.21 985,56
  lines w6: -1367.87,-443.94 -1367.87,-300 ; -1366.14,-444.88 1367,-444.88 ; -1136.38,-443.94 -1136.38,-408.19 -1131.38,-408.19 ; -1132.87,-300 -1132.87,155 -1152.87,175 -1347.87,175 -1367.87,155 -1367.87,-300 ; -1106.38,-300 ccw(c-1106.38,-325) -1131.38,-325 -1131.38,-408.19 ; -1102.87,-444.25 cw(c-1102.87,-469.25) -1077.87,-469.25 -1077.87,-673.19 ccw(c-1057.87,-673.19) -1057.87,-693.19 1058,-693.19 ccw(c1058,-673.19) 1078,-673.19 1078,-469.25 cw(c1103,-469.25) 1103,-444.25 ; 1107,-300 cw(c1107,-325) 1132,-325 1132,-408.19 ; 1133,-300 1133,155 1153,175 1343,175 1368,150 1368,-443.94 ; 1137,-443.94 1137,-408.19 1132,-408.19 ; 1365,-300 -1367.87,-300 ; -1131.38,-408.19 1132,-408.19
  text "1" at -1005.16,79 h77.5
  text "21" at 1024,75 h77.5
  text "42" at 1003,-26.18 h77.5
  text "62" at 1004,-128.54 h77.5
  text "22" at -1100.16,-22.24 h77.5
  text "43" at -1088.35,-128.54 h77.5
  text "Male" at -950,-380 h77.5
Mechanical 2:
  text ">NAME" at -400,150 h108.5
Mechanical 4:
  text ">VALUE" at 0,150 h108.5
Mechanical 9:
  circle w0: c1250,0 r105
  circle w0: c-1250,0 r105
Mechanical 10:
  circle w0: c1250,0 r105
  circle w0: c-1250,0 r105
Mechanical 16:
  text "HDM62 CONEC" at 522,-389.41 h77.5

## HDM62V [mil]
pads (64):
  round 119 hole 119: 1(-1250,0) 1(1250,0)
  round 54 hole 36: 1(-926.46,78) 2(-831.46,78) 3(-736.46,78) 4(-641.46,78) 5(-546.46,78) 6(-451.46,78) 7(-356.46,78) 8(-261.46,78) 9(-166.46,78) 10(-71.46,78) 11(24,78) 12(119,78) 13(214,78) 14(309,78) 15(404,78) 16(499,78) 17(594,78) 18(689,78) 19(784,78) 20(879,78) 21(974,78) 22(-973.98,0) 23(-878.94,0) 24(-783.94,0) 25(-688.94,0) 26(-593.94,0) 27(-498.94,0) 28(-403.94,0) 29(-308.94,0) 30(-213.94,0) 31(-118.94,0) 32(-23.94,0) 33(72,0) 34(167,0) 35(262,0) 36(357,0) 37(452,0) 38(547,0) 39(642,0) 40(737,0) 41(832,0) 42(927,0) 43(-926.46,-77.95) 44(-831.46,-77.95) 45(-736.46,-77.95) 46(-641.46,-77.95) 47(-546.46,-77.95) 48(-451.46,-77.95) 49(-356.46,-77.95) 50(-261.46,-77.95) 51(-166.46,-77.95) 52(-71.46,-77.95) 53(24,-77.95) 54(119,-77.95) 55(214,-77.95) 56(309,-77.95) 57(404,-77.95) 58(499,-77.95) 59(594,-77.95) 60(689,-77.95) 61(784,-77.95) 62(879,-77.95)
Top Overlay:
  circle w6: c1250,0 r65
  circle w6: c-1250,0 r65
  lines w6: -1345.32,-272.56 cw(c-1345.32,-247.56) -1370.32,-247.56 -1370.32,248 cw(c-1345.32,248) -1345.32,273 1345,273 ; -1345,-272.56 1346,-272.56 ccw(c1346,-247.56) 1371,-247.56 1371,248 ccw(c1346,248) 1346,273 ; -1080.59,100 -1049.57,-123.86 ; -1080.56,100 cw(c-1028.74,110.2) -1028.58,163 1029,163 cw(c1029.22,110.06) 1081,99 1050,-122.87 ; -1049.88,-123.21 ccw(c-998.58,-109.87) -998.58,-162.87 999,-162.87 ccw(c998.85,-110.06) 1050,-123.21
  text "1" at -990.28,79 h77.5
  text "62" at 922,-100.98 h62
  text "21" at 1013,63 h62
  text "42" at 969,-14.37 h62
  text "22" at -1067.01,22 h62
  text "43" at -1031.89,-100.98 h62
  text "Male" at -1045,190 h77.5
Mechanical 2:
  text ">NAME" at -450,300 h108.5
Mechanical 4:
  text ">VALUE" at -495,-250 h108.5
Mechanical 9:
  circle w0: c1250,0 r105
  circle w0: c-1250,0 r105
Mechanical 10:
  circle w0: c1250,0 r105
  circle w0: c-1250,0 r105
Mechanical 16:
  text "HDM62 CONEC" at 572,211 h77.5

## HDM78V [mil]
pads (80):
  round 119 hole 119: 1(-1202.76,0) 1(1203,0)
  round 54 hole 36: 1(-906.46,123) 2(-811.46,123) 3(-716.46,123) 4(-621.46,123) 5(-526.46,123) 6(-431.46,123) 7(-336.46,123) 8(-241.46,123) 9(-146.46,123) 10(-51.46,123) 11(44,123) 12(139,123) 13(234,123) 14(329,123) 15(424,123) 16(519,123) 17(614,123) 18(709,123) 19(804,123) 20(899,123) 21(-858.94,41) 22(-763.94,41) 23(-668.94,41) 24(-573.94,41) 25(-478.94,41) 26(-383.94,41) 27(-288.94,41) 28(-193.94,41) 29(-98.94,41) 30(-3.94,41) 31(92,41) 32(187,41) 33(282,41) 34(377,41) 35(472,41) 36(567,41) 37(662,41) 38(757,41) 39(852,41) 40(-906.46,-40.94) 41(-811.46,-40.94) 42(-716.46,-40.94) 43(-621.46,-40.94) 44(-526.46,-40.94) 45(-431.46,-40.94) 46(-336.46,-40.94) 47(-241.46,-40.94) 48(-146.46,-40.94) 49(-51.46,-40.94) 50(44,-40.94) 51(139,-40.94) 52(234,-40.94) 53(329,-40.94) 54(424,-40.94) 55(519,-40.94) 56(614,-40.94) 57(709,-40.94) 58(804,-40.94) 59(899,-40.94) 60(-858.94,-122.83) 61(-763.94,-122.83) 62(-668.94,-122.83) 63(-573.94,-122.83) 64(-478.94,-122.83) 65(-383.94,-122.83) 66(-288.94,-122.83) 67(-193.94,-122.83) 68(-98.94,-122.83) 69(-3.94,-122.83) 70(92,-122.83) 71(187,-122.83) 72(282,-122.83) 73(377,-122.83) 74(472,-122.83) 75(567,-122.83) 76(662,-122.83) 77(757,-122.83) 78(852,-122.83)
Top Overlay:
  circle w6: c1203,0 r65
  circle w6: c-1202.76,0 r65
  lines w6: -1298.07,-307.99 cw(c-1298.07,-282.99) -1323.07,-282.99 -1323.07,283 cw(c-1298.07,283) -1298.07,308 1298,308 ; -1297.76,-307.99 1299,-307.99 ccw(c1299,-282.99) 1324,-282.99 1324,283 ccw(c1299,283) 1299,308 ; -1033.35,155 -1002.32,-178.98 ; -1033.31,155 cw(c-981.5,165.2) -981.34,218 982,218 cw(c982.22,165.06) 1034,154 1003,-177.99 ; -1002.63,-178.33 ccw(c-951.34,-164.99) -951.34,-217.99 952,-217.99 ccw(c951.85,-165.18) 1003,-178.33
  text "1" at -980.24,103 h77.5
  text "21" at -954.21,22 h62
  text "40" at -1006.1,-61.61 h62
  text "60" at -969.09,-148.23 h62
  text "20" at 945,114 h62
  text "39" at 898,25 h62
  text "59" at 944,-57.68 h62
  text "78" at 896,-144.29 h62
  text "Male" at -855,285 h77.5
Mechanical 2:
  text ">NAME" at -900,350 h108.5
Mechanical 4:
  text ">VALUE" at -500,350 h108.5
Mechanical 9:
  circle w0: c1203,0 r105
  circle w0: c-1202.76,0 r105
Mechanical 10:
  circle w0: c1203,0 r105
  circle w0: c-1202.76,0 r105
Mechanical 16:
  text "HDM78 CONEC" at 6,243 h77.5

## M09D [mil]
pads (9):
  rect 67x138 smd: 1(216,-237.98) 2(109,-237.98) 3(0,-237.99) 4(-108.01,-237.98) 5(-215.99,-237.98)
  rect 67x138 smd far side: 6(162,-238) 7(54,-238) 8(-54,-238) 9(-162,-238)
Top Overlay:
  rectangle: -610,37 610,57
  rectangle: -362.2,-163.78 363,-100.79
  lines w6: -410,40 -410,20 -405,20 -405,-75 ccw(c-380,-75) -380,-100 ; -380.75,-100 381,-100 ; -370,55 ccw(c-370,80) -345,80 -345,265 cw(c-325,265) -325,285 325,285 cw(c325,265) 345,265 345,80 ccw(c370,80) 370,55 ; -200,235 -200,145 -110,145 -110,235 ; -45,235 -45,145 45,145 45,235 ; 110,235 110,145 200,145 200,235 ; 380,-100 ccw(c380,-75) 405,-75 405,20 410,20 410,40
  text "1" at 199,-85.77 h77.5
  text "5" at -231.8,-85.77 h77.5
Bottom Overlay:
  text "9" at -145.19,-86.48 h77.5
  text "6" at 184,-86.48 h77.5
Mechanical 2:
  text ">NAME" at -350,-400 h108.5
Mechanical 4:
  text ">VALUE" at 50,-400 h108.5
Mechanical 13:
  lines w10: -648,-108 -594,-162 -540,-108 -486,-162 -432,-108 ; 432,-108 486,-162 540,-108 594,-162 648,-108
  text "Board" at 450,-100 h77.5
  text "Board" at -650,-100 h77.5
Mechanical 16:
  rectangle: -239.62,-258.27 -192.38,-159.84
  rectangle: -131.62,-258.27 -84.38,-159.84
  rectangle: -23.62,-258.27 24,-159.84
  rectangle: 85,-258.27 132,-159.84
  rectangle: 193,-258.27 240,-159.84
  text "M09D" at -300,216 h77.5
Mechanical 30:
  rectangle: 139,-258.27 186,-159.84
  rectangle: 31,-258.27 78,-159.84
  rectangle: -77.62,-258.27 -30.38,-159.84
  rectangle: -185.62,-258.27 -138.38,-159.84

## M09H [mil]
pads (11):
  round 130 hole 130: 1(-493,0) 1(493,0)
  oct 60x60 hole 40: 1(-216,50) 2(-108,50) 3(0,50) 4(108,50) 5(216,50) 6(-162,-50) 7(-54,-50) 8(54,-50) 9(162,-50)
Top Overlay:
  circle w6: c493,0 r65
  circle w6: c-493,0 r65
  rectangle: -365,-300 365,-270
  rectangle: -610,-460 610,-440
  rectangle: -232,-270 -200,15
  rectangle: -178,-270 -146,-85
  rectangle: -124,-270 -92,15
  rectangle: -70,-270 -38,-85
  rectangle: -16,-270 16,15
  rectangle: 38,-270 70,-85
  rectangle: 92,-270 124,15
  rectangle: 146,-270 178,-85
  rectangle: 200,-270 232,15
  lines w6: -380,-300 ccw(c-380,-325) -405,-325 -405,-420 -410,-420 -410,-440 ; -370,-460 cw(c-370,-485) -345,-485 -345,-670 ccw(c-325,-670) -325,-690 -315,-690 315,-690 325,-690 ccw(c325,-670) 345,-670 345,-485 cw(c370,-485) 370,-460 ; -200,-640 -200,-550 -110,-550 -110,-640 ; -45,-640 -45,-550 45,-550 45,-640 ; 110,-640 110,-550 200,-550 200,-640 ; 380,-300 cw(c380,-325) 405,-325 405,-420 410,-420 410,-440 ; -610,-440 -610,-460 -330,-460 330,-460 610,-460 610,-440 ; -610,-440 -610,-420 -610,-300 ; -610,-440 -510,-440 -410,-440 ; -610,-300 -610,-295 -610,105 -590,125 -395,125 -375,105 -375,-300 ; -610,-300 -410,-300 -375,-300 ; -410,-440 410,-440 ; -375,-300 -365,-300 ; -365,-300 365,-300 ; -365,-300 -365,-270 365,-270 365,-300 ; 365,-300 375,-300 ; 375,-300 410,-300 610,-300 ; 375,-300 375,105 395,125 585,125 610,100 610,-295 610,-300 ; 410,-440 510,-440 610,-440 ; 610,-440 610,-420 610,-300
  text "1" at -300,25 h77.5
  text "5" at 285,25 h77.5
  text "9" at 285,-75 h77.5
  text "6" at -300,-80 h77.5
  text "2,54" at -535,-270 h77.5
  text "M09" at -300,-385 h77.5
Mechanical 2:
  text ">NAME" at -600,175 h108.5
Mechanical 4:
  text ">VALUE" at -300,-805 h108.5
Mechanical 9:
  circle w0: c493,0 r105
  circle w0: c-493,0 r105
Mechanical 10:
  circle w0: c493,0 r105
  circle w0: c-493,0 r105
Mechanical 16:
  lines w32: -216,5 -216,45 ; -162,-95 -162,-55 ; -108,5 -108,45 ; -54,-95 -54,-55 ; 0,5 0,45 ; 54,-95 54,-55 ; 108,5 108,45 ; 162,-95 162,-55 ; 216,5 216,45